# EAGLE library part BYTEWORKER-MODULE (library bytewerk-module)
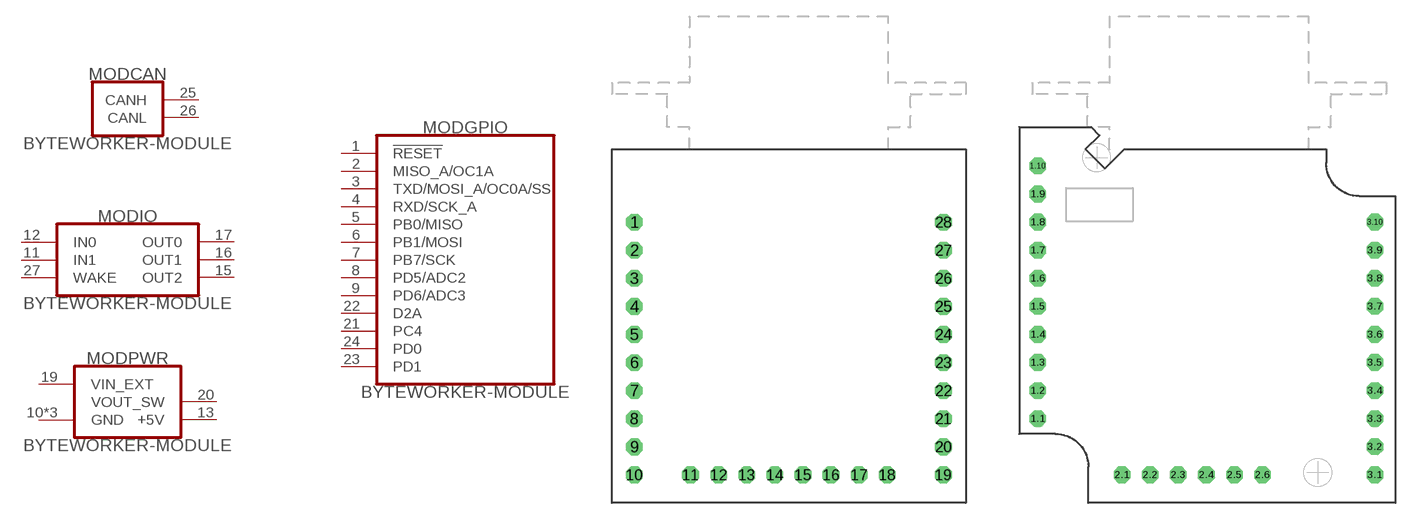
[diagram p0: symbol with the pads of BYTEWORKER-V0.2; footprints BYTEWORKER-V0.2, BYTEWORKER-V0.4.3]

Designator prefix MOD; gates CAN=BYTEWORKER-CAN GPIO=BYTEWORKER-GPIO IO=BYTEWORKER-IO PWR=BYTEWORKER-PWR

## BYTEWORKER-MODULEV0.2  [BYTEWORKER-V0.2]
1  GPIO:!RESET!  in
2  GPIO:MISO_A/OC1A
3  GPIO:TXD/MOSI_A/OC0A/SS
4  GPIO:RXD/SCK_A
5  GPIO:PB0/MISO
6  GPIO:PB1/MOSI
7  GPIO:PB7/SCK
8  GPIO:PD5/ADC2
9  GPIO:PD6/ADC3
10  PWR:GND  pwr
11  IO:IN1  in
12  IO:IN0  in
13  PWR:+5V  sup
15  IO:OUT2  out
16  IO:OUT1  out
17  IO:OUT0  out
18  PWR:GND  pwr
19  PWR:VIN_EXT  pwr
20  PWR:VOUT_SW  oc
21  GPIO:PC4
22  GPIO:D2A
23  GPIO:PD1
24  GPIO:PD0
25  CAN:CANH  pas
26  CAN:CANL  pas
27  IO:WAKE  sup
28  PWR:GND  pwr

## BYTEWORKER-MODULEV0.4.3  [BYTEWORKER-V0.4.3]
1.1  PWR:GND  pwr
1.2  GPIO:PD6/ADC3
1.3  GPIO:PD5/ADC2
1.4  GPIO:PB7/SCK
1.5  GPIO:PB1/MOSI
1.6  GPIO:PB0/MISO
1.7  GPIO:RXD/SCK_A
1.8  GPIO:TXD/MOSI_A/OC0A/SS
1.9  GPIO:MISO_A/OC1A
1.10  GPIO:!RESET!  in
2.1  IO:IN1  in
2.2  IO:IN0  in
2.3  IO:OUT2  out
2.4  IO:OUT1  out
2.5  IO:OUT0  out
2.6  PWR:GND  pwr
3.1  PWR:VIN_EXT  pwr
3.2  PWR:VOUT_SW  oc
3.3  GPIO:PC4
3.4  GPIO:D2A
3.5  GPIO:PD1
3.6  GPIO:PD0
3.7  CAN:CANH  pas
3.8  CAN:CANL  pas
3.9  IO:WAKE  sup
3.10  PWR:+5V  sup

## Footprint BYTEWORKER-V0.2 (pad centres in mm)
drill 1 octagon: 1 -13.97,9.4; 2 -13.97,6.86; 3 -13.97,4.32; 4 -13.97,1.78; 5 -13.97,-0.76; 6 -13.97,-3.3; 7 -13.97,-5.84; 8 -13.97,-8.38; 9 -13.97,-10.92; 10 -13.97,-13.46; 11 -8.89,-13.46; 12 -6.35,-13.46; 13 -3.81,-13.46; 14 -1.27,-13.46; 15 1.27,-13.46; 16 3.81,-13.46; 17 6.35,-13.46; 18 8.89,-13.46; 19 13.97,-13.46; 20 13.97,-10.92; 21 13.97,-8.38; 22 13.97,-5.84; 23 13.97,-3.3; 24 13.97,-0.76; 25 13.97,1.78; 26 13.97,4.32; 27 13.97,6.86; 28 13.97,9.4

## Footprint BYTEWORKER-V0.4.3 (pad centres in mm)
drill 1 octagon: 1.1 -15.325,-9.37; 1.2 -15.325,-6.83; 1.3 -15.325,-4.29; 1.4 -15.325,-1.75; 1.5 -15.325,0.79; 1.6 -15.325,3.33; 1.7 -15.325,5.87; 1.8 -15.325,8.41; 1.9 -15.325,10.95; 1.10 -15.325,13.49; 2.1 -7.705,-14.45; 2.2 -5.165,-14.45; 2.3 -2.625,-14.45; 2.4 -0.085,-14.45; 2.5 2.455,-14.45; 2.6 4.995,-14.45; 3.1 15.155,-14.45; 3.2 15.155,-11.91; 3.3 15.155,-9.37; 3.4 15.155,-6.83; 3.5 15.155,-4.29; 3.6 15.155,-1.75; 3.7 15.155,0.79; 3.8 15.155,3.33; 3.9 15.155,5.87; 3.10 15.155,8.41